# EAGLE library part HDC1008 (library common)
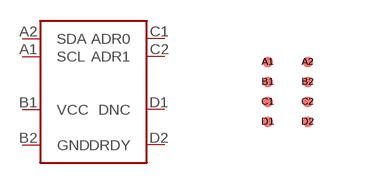
[diagram p19: symbol with the pads of BGA8_HDC; footprint BGA8_HDC]

Designator prefix -

## HDC1008  [BGA8_HDC]
A1  SCL  in
A2  SDA
B1  VCC  sup
B2  GND  sup
C1  ADR0
C2  ADR1
D1  DNC  nc
D2  DRDY

## Footprint BGA8_HDC (pad centres in mm)
smd 0.26 x 0.26: A1 -0.5,0.75; A2 0.5,0.75; B1 -0.5,0.25; B2 0.5,0.25; C1 -0.5,-0.25; C2 0.5,-0.25; D1 -0.5,-0.75; D2 0.5,-0.75